# EAGLE library part 24LC256-I/ST (library Microchip_By_element14_Batch_1)
256K I2C CMOS Serial EEPROM
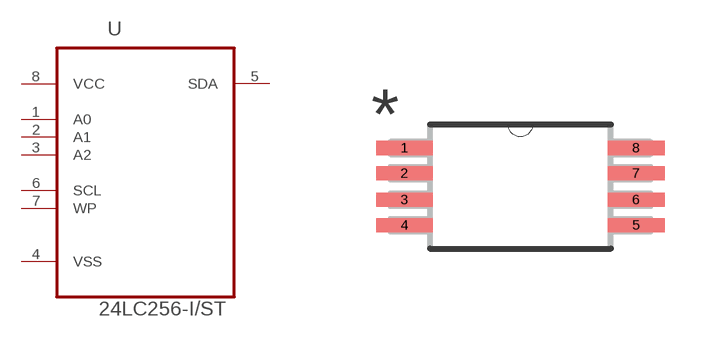
[diagram p76: symbol with the pads of SOP65P638X110-8N; footprint SOP65P638X110-8N]

Designator prefix -

## 24LC256-I/ST (DESCRIPTION: EEPROM; MPN: 24LC256-I/ST; OC_FARNELL: 1296579; OC_NEWARK: 27C9145; PACKAGE: TSSOP-8; SUPPLIER: Microchip)  [SOP65P638X110-8N]
1  A0  in
2  A1  in
3  A2  in
4  VSS  pas
5  SDA
6  SCL  in
7  WP  in
8  VCC  pwr

## Footprint SOP65P638X110-8N (pad centres in mm)
smd 1.422 x 0.356: 1 -2.896,0.965; 2 -2.896,0.33; 3 -2.896,-0.33; 4 -2.896,-0.965; 5 2.896,-0.965; 6 2.896,-0.33; 7 2.896,0.33; 8 2.896,0.965